# Altium footprint library axsem_rpi_v1-0.PCBLIB: 6 footprints
Each footprint in its own frame and in the unit in brackets; x right, y up, seen from the top. Pads: shape width x height; smd on the part's side, far side on the other; paste and mask are expansions set on the pad; w line width, h text height; cw(c..) or ccw(c..) is an arc to the next point about the centre after c.
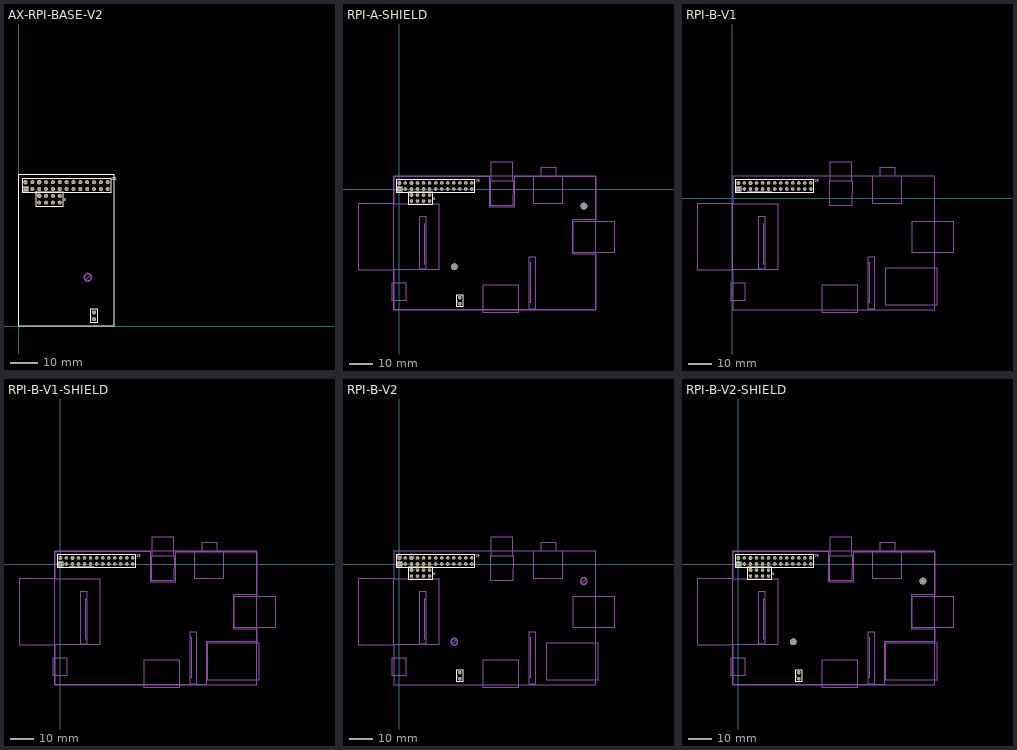
[diagram p0: the footprints below, top view; thin cyan lines are the x and y axes]

## AX-RPI-BASE-V2 [mm]
pads (36):
  rect 1.5x1.5 hole 1: P1_1(2.54,50.8)
  round 1.676 hole 1: P1_2(2.54,53.34) P1_6(7.62,53.34) P5_1(7.62,48.26)
  round 1.5 hole 1: P1_3(5.08,50.8) P1_4(5.08,53.34) P1_5(7.62,50.8) P1_7(10.16,50.8) P1_8(10.16,53.34) P1_9(12.7,50.8) P1_10(12.7,53.34) P1_11(15.24,50.8) P1_12(15.24,53.34) P1_13(17.78,50.8) P1_14(17.78,53.34) P1_15(20.32,50.8) P1_16(20.32,53.34) P1_17(22.86,50.8) P1_18(22.86,53.34) P1_19(25.4,50.8) P1_20(25.4,53.34) P1_21(27.94,50.8) P1_22(27.94,53.34) P1_23(30.48,50.8) P1_24(30.48,53.34) P1_25(33.02,50.8) P1_26(33.02,53.34) P5_2(7.62,45.72) P5_3(10.16,48.26) P5_4(10.16,45.72) P5_5(12.7,48.26) P5_6(12.7,45.72) P5_7(15.24,48.26) P5_8(15.24,45.72) P6_1(27.94,2.54) P6_2(27.94,5.08)
Top Overlay:
  lines w0.127: 0.14,0.075 35.5,0.075 35.5,56 0.14,56 0.14,0.075 ; 1.27,49.53 34.29,49.53 34.29,54.61 1.27,54.61 1.27,49.53 ; 1.615,49.875 3.465,49.875 cw(c57.382,50.8) 3.465,51.725 1.615,51.725 1.615,49.875 ; 6.35,44.45 6.35,49.53 16.51,49.53 16.51,44.45 6.35,44.45 ; 26.67,1.27 29.21,1.27 29.21,6.35 26.67,6.35 26.67,1.27
  text "1" at 2.548,49.236 h1.97
  text "26" at 34.58,53.396 h1.97
  text "1" at 26.416,2.54 h1.97
  text "1" at 6.096,48.26 h1.97
  text "8" at 16.764,45.72 h1.97
Mechanical 12:
  circle w0.1: c25.64,18.08 r1.45
  circle w0.05: c25.63,18.08 r1.25
  lines w0.05: 24.62,17.06 26.67,19.11
  text "Board" at 4.064,41.148 h1.97
  text "56x35.5mm" at 4.064,39.116 h1.97
  text "H=16mm" at 4.064,37.084 h1.97
  text "d=2,9mm" at 28.424,18.117 h1.57
Mechanical 16:
  text "GND" at 29.728,5.072 h0.63
  text "Reset" at 29.728,2.532 h0.63

## RPI-A-SHIELD [mm]
pads (38):
  round 2.9 hole 2.9: 1(23.1,-32.72) 1(77.57,-7.21)
  rect 1.5x1.5 hole 1: P1_1(0,0)
  round 1.676 hole 1: P1_2(0,2.54) P1_6(5.08,2.54) P5_1(5.08,-2.54)
  round 1.5 hole 1: P1_3(2.54,0) P1_4(2.54,2.54) P1_5(5.08,0) P1_7(7.62,0) P1_8(7.62,2.54) P1_9(10.16,0) P1_10(10.16,2.54) P1_11(12.7,0) P1_12(12.7,2.54) P1_13(15.24,0) P1_14(15.24,2.54) P1_15(17.78,0) P1_16(17.78,2.54) P1_17(20.32,0) P1_18(20.32,2.54) P1_19(22.86,0) P1_20(22.86,2.54) P1_21(25.4,0) P1_22(25.4,2.54) P1_23(27.94,0) P1_24(27.94,2.54) P1_25(30.48,0) P1_26(30.48,2.54) P5_2(5.08,-5.08) P5_3(7.62,-2.54) P5_4(7.62,-5.08) P5_5(10.16,-2.54) P5_6(10.16,-5.08) P5_7(12.7,-2.54) P5_8(12.7,-5.08) P6_1(25.4,-48.26) P6_2(25.4,-45.72)
Top Overlay:
  lines w0.127: -1.27,-1.27 31.75,-1.27 31.75,3.81 -1.27,3.81 -1.27,-1.27 ; -0.925,-0.925 0.925,-0.925 cw(c54.842,0) 0.925,0.925 -0.925,0.925 -0.925,-0.925 ; 3.81,-6.35 3.81,-1.27 13.97,-1.27 13.97,-6.35 3.81,-6.35 ; 24.13,-49.53 26.67,-49.53 26.67,-44.45 24.13,-44.45 24.13,-49.53
  text "1" at 0.008,-1.564 h1.97
  text "26" at 32.04,2.596 h1.97
  text "1" at 23.876,-48.26 h1.97
  text "1" at 3.556,-2.54 h1.97
  text "8" at 14.224,-5.08 h1.97
Mechanical 1:
  lines w0: -2.413,-50.724 82.601,-50.724 82.601,-27.33 72.644,-27.33 72.644,-13.005 82.601,-13.005 82.601,5.283 48.514,5.283 48.514,-7.366 37.719,-7.366 37.719,5.283 -2.413,5.283 -2.413,-50.724
Mechanical 16:
  lines w0.05: -2.4,-6.225 -17.4,-6.225 -17.4,-34.025 -2.3,-34.025
  lines w0.076: 10.5,-31.4 10.5,-14.6 ; 10.503,-31.407 11.112,-31.407 ; 10.503,-14.58 11.112,-14.58 ; 54.597,-47.574 55.207,-47.574 ; 54.597,-30.734 55.207,-30.734
  lines w0.1: 55.2,-47.56 55.2,-30.76
  lines w0.127: 38.619,3.16 38.619,11.46 47.51,11.453 47.51,3.172 ; 56.6,5.236 56.6,-6.1 68.6,-6.1 68.6,5.236 ; 59.4,5.3 59.4,8.9 66,8.9 66,5.3 ; -2.4,-34.025 -2.4,-50.725 82.6,-50.725 82.6,5.275 -2.4,5.275 -2.4,-6.225 ; -2.4,-34.025 -2.3,-34.025 16.6,-34.025 16.6,-6.225 -2.4,-6.225 ; -2.4,-34.025 -2.4,-6.225 ; -2.9,-47.1 2.7,-47.1 2.7,-39.5 -2.9,-39.5 -2.9,-47.1 ; 8.6,-33.7 11.1,-33.7 11.1,-11.475 8.6,-11.5 8.6,-33.7 ; 35.1,-51.9 50.2,-51.9 50.2,-40.5 35.1,-40.5 35.1,-51.9 ; 38.17,-6.85 47.994,-6.853 48.021,3.167 38.206,3.163 38.17,-6.85 ; 54.6,-50.66 57.1,-50.66 57.1,-28.46 54.6,-28.46 54.6,-50.66 ; 73.1,-26.775 90.3,-26.775 90.3,-13.525 73.1,-13.525 73.1,-26.775
  text "SD Card" at 0.744,-19.824 h1.97
  text "USB" at 78.546,-20.018 h1.97
  text "USB" at 0.088,-43.631 h1.97
  text "H=-5mm" at 3.483,-19.906 h1.57
  text "Board" at 42.164,-19.812 h1.97
  text "Audio" at 62.636,1.967 h1.97
  text "RCA" at 42.851,0.388 h1.97
  text "HDMI" at 42.515,-49.211 h1.97
  text "(Power)" at 1.812,-43.754 h1.57
  text "(Host)" at 80.466,-20.014 h1.57
  text "56x85mm" at 42.164,-21.844 h1.97
  text "H=16mm" at 42.164,-23.876 h1.97
  text "GND" at 27.188,-45.728 h0.63
  text "Reset" at 27.188,-48.268 h0.63
  text "CSI-2" at 53.584,-39.204 h1.97
  text "DSI" at 13.124,-22.624 h1.97

## RPI-B-V1 [mm]
pads (26):
  rect 1.5x1.5 hole 1: P1_1(2.54,3.81)
  round 1.676 hole 1: P1_2(2.54,6.35) P1_6(7.62,6.35)
  round 1.5 hole 1: P1_3(5.08,3.81) P1_4(5.08,6.35) P1_5(7.62,3.81) P1_7(10.16,3.81) P1_8(10.16,6.35) P1_9(12.7,3.81) P1_10(12.7,6.35) P1_11(15.24,3.81) P1_12(15.24,6.35) P1_13(17.78,3.81) P1_14(17.78,6.35) P1_15(20.32,3.81) P1_16(20.32,6.35) P1_17(22.86,3.81) P1_18(22.86,6.35) P1_19(25.4,3.81) P1_20(25.4,6.35) P1_21(27.94,3.81) P1_22(27.94,6.35) P1_23(30.48,3.81) P1_24(30.48,6.35) P1_25(33.02,3.81) P1_26(33.02,6.35)
Top Overlay:
  lines w0.127: 6.35,2.54 16.51,2.54 ; 1.27,2.54 34.29,2.54 34.29,7.62 1.27,7.62 1.27,2.54 ; 1.615,2.885 3.465,2.885 cw(c57.382,3.81) 3.465,4.735 1.615,4.735 1.615,2.885
  text "1" at 2.548,2.246 h1.97
  text "26" at 34.58,6.406 h1.97
Mechanical 16:
  lines w0.05: 0.14,-2.415 -14.86,-2.415 -14.86,-30.215 0.24,-30.215
  lines w0.076: 13.04,-27.59 13.04,-10.79 ; 13.043,-27.597 13.652,-27.597 ; 13.043,-10.77 13.652,-10.77 ; 57.137,-43.764 57.747,-43.764 ; 57.137,-26.924 57.747,-26.924
  lines w0.1: 57.74,-43.75 57.74,-26.95
  lines w0.127: 41.159,6.97 41.159,15.27 50.05,15.263 50.05,6.982 ; 59.14,9.046 59.14,-2.29 71.14,-2.29 71.14,9.046 ; 61.94,9.11 61.94,12.71 68.54,12.71 68.54,9.11 ; 0.14,-30.215 0.14,-46.915 85.14,-46.915 85.14,9.085 0.14,9.085 0.14,-2.415 ; 0.14,-30.215 0.24,-30.215 19.14,-30.215 19.14,-2.415 0.14,-2.415 ; 0.14,-30.215 0.14,-2.415 ; -0.36,-43.29 5.24,-43.29 5.24,-35.69 -0.36,-35.69 -0.36,-43.29 ; 11.14,-29.89 13.64,-29.89 13.64,-7.665 11.14,-7.69 11.14,-29.89 ; 37.64,-48.09 52.74,-48.09 52.74,-36.69 37.64,-36.69 37.64,-48.09 ; 40.71,-3.04 50.534,-3.043 50.561,6.977 40.746,6.973 40.71,-3.04 ; 57.14,-46.85 59.64,-46.85 59.64,-24.65 57.14,-24.65 57.14,-46.85 ; 64.34,-44.915 86.14,-44.915 86.14,-29.515 64.34,-29.515 64.34,-44.915 ; 75.64,-22.965 92.84,-22.965 92.84,-9.715 75.64,-9.715 75.64,-22.965
  text "SD Card" at 3.284,-16.014 h1.97
  text "USB" at 81.086,-16.208 h1.97
  text "RJ45" at 83.526,-37.197 h1.97
  text "USB" at 2.628,-39.821 h1.97
  text "H=-5mm" at 6.023,-16.096 h1.57
  text "Board" at 44.704,-16.002 h1.97
  text "Audio" at 65.176,5.777 h1.97
  text "RCA" at 45.391,4.198 h1.97
  text "HDMI" at 45.055,-45.401 h1.97
  text "(Power)" at 4.352,-39.944 h1.57
  text "(Host)" at 83.006,-16.204 h1.57
  text "56x85mm" at 44.704,-18.034 h1.97
  text "H=16mm" at 44.704,-20.066 h1.97
  text "CSI-2" at 56.124,-35.394 h1.97
  text "DSI" at 15.664,-18.814 h1.97

## RPI-B-V1-SHIELD [mm]
pads (26):
  rect 1.5x1.5 hole 1: P1_1(0,0)
  round 1.676 hole 1: P1_2(0,2.54) P1_6(5.08,2.54)
  round 1.5 hole 1: P1_3(2.54,0) P1_4(2.54,2.54) P1_5(5.08,0) P1_7(7.62,0) P1_8(7.62,2.54) P1_9(10.16,0) P1_10(10.16,2.54) P1_11(12.7,0) P1_12(12.7,2.54) P1_13(15.24,0) P1_14(15.24,2.54) P1_15(17.78,0) P1_16(17.78,2.54) P1_17(20.32,0) P1_18(20.32,2.54) P1_19(22.86,0) P1_20(22.86,2.54) P1_21(25.4,0) P1_22(25.4,2.54) P1_23(27.94,0) P1_24(27.94,2.54) P1_25(30.48,0) P1_26(30.48,2.54)
Top Overlay:
  lines w0.127: 3.81,-1.27 13.97,-1.27 ; -1.27,-1.27 31.75,-1.27 31.75,3.81 -1.27,3.81 -1.27,-1.27 ; -0.925,-0.925 0.925,-0.925 cw(c54.842,0) 0.925,0.925 -0.925,0.925 -0.925,-0.925
  text "1" at 0.008,-1.564 h1.97
  text "26" at 32.04,2.596 h1.97
Mechanical 1:
  lines w0: -2.438,-50.749 61.366,-50.749 61.366,-32.741 82.55,-32.741 82.55,-27.33 72.644,-27.33 72.644,-13.005 82.652,-13.005 82.652,5.232 48.514,5.207 48.514,-7.366 37.719,-7.366 37.719,5.334 -2.413,5.334 -2.438,-50.749
Mechanical 16:
  lines w0.05: -2.4,-6.225 -17.4,-6.225 -17.4,-34.025 -2.3,-34.025
  lines w0.076: 10.5,-31.4 10.5,-14.6 ; 10.503,-31.407 11.112,-31.407 ; 10.503,-14.58 11.112,-14.58 ; 54.597,-47.574 55.207,-47.574 ; 54.597,-30.734 55.207,-30.734
  lines w0.1: 55.2,-47.56 55.2,-30.76
  lines w0.127: 38.619,3.16 38.619,11.46 47.51,11.453 47.51,3.172 ; 56.6,5.236 56.6,-6.1 68.6,-6.1 68.6,5.236 ; 59.4,5.3 59.4,8.9 66,8.9 66,5.3 ; -2.4,-34.025 -2.4,-50.725 82.6,-50.725 82.6,5.275 -2.4,5.275 -2.4,-6.225 ; -2.4,-34.025 -2.3,-34.025 16.6,-34.025 16.6,-6.225 -2.4,-6.225 ; -2.4,-34.025 -2.4,-6.225 ; -2.9,-47.1 2.7,-47.1 2.7,-39.5 -2.9,-39.5 -2.9,-47.1 ; 8.6,-33.7 11.1,-33.7 11.1,-11.475 8.6,-11.5 8.6,-33.7 ; 35.1,-51.9 50.2,-51.9 50.2,-40.5 35.1,-40.5 35.1,-51.9 ; 38.17,-6.85 47.994,-6.853 48.021,3.167 38.206,3.163 38.17,-6.85 ; 54.6,-50.66 57.1,-50.66 57.1,-28.46 54.6,-28.46 54.6,-50.66 ; 61.8,-48.725 83.6,-48.725 83.6,-33.325 61.8,-33.325 61.8,-48.725 ; 73.1,-26.775 90.3,-26.775 90.3,-13.525 73.1,-13.525 73.1,-26.775
  text "SD Card" at 0.744,-19.824 h1.97
  text "USB" at 78.546,-20.018 h1.97
  text "RJ45" at 80.986,-41.007 h1.97
  text "USB" at 0.088,-43.631 h1.97
  text "H=-5mm" at 3.483,-19.906 h1.57
  text "Board" at 42.164,-19.812 h1.97
  text "Audio" at 62.636,1.967 h1.97
  text "RCA" at 42.851,0.388 h1.97
  text "HDMI" at 42.515,-49.211 h1.97
  text "(Power)" at 1.812,-43.754 h1.57
  text "(Host)" at 80.466,-20.014 h1.57
  text "56x85mm" at 42.164,-21.844 h1.97
  text "H=16mm" at 42.164,-23.876 h1.97
  text "CSI-2" at 53.584,-39.204 h1.97
  text "DSI" at 13.124,-22.624 h1.97

## RPI-B-V2 [mm]
pads (36):
  rect 1.5x1.5 hole 1: P1_1(0,0)
  round 1.676 hole 1: P1_2(0,2.54) P1_6(5.08,2.54) P5_1(5.08,-2.54)
  round 1.5 hole 1: P1_3(2.54,0) P1_4(2.54,2.54) P1_5(5.08,0) P1_7(7.62,0) P1_8(7.62,2.54) P1_9(10.16,0) P1_10(10.16,2.54) P1_11(12.7,0) P1_12(12.7,2.54) P1_13(15.24,0) P1_14(15.24,2.54) P1_15(17.78,0) P1_16(17.78,2.54) P1_17(20.32,0) P1_18(20.32,2.54) P1_19(22.86,0) P1_20(22.86,2.54) P1_21(25.4,0) P1_22(25.4,2.54) P1_23(27.94,0) P1_24(27.94,2.54) P1_25(30.48,0) P1_26(30.48,2.54) P5_2(5.08,-5.08) P5_3(7.62,-2.54) P5_4(7.62,-5.08) P5_5(10.16,-2.54) P5_6(10.16,-5.08) P5_7(12.7,-2.54) P5_8(12.7,-5.08) P6_1(25.4,-48.26) P6_2(25.4,-45.72)
Top Overlay:
  lines w0.127: -1.27,-1.27 31.75,-1.27 31.75,3.81 -1.27,3.81 -1.27,-1.27 ; -0.925,-0.925 0.925,-0.925 cw(c54.842,0) 0.925,0.925 -0.925,0.925 -0.925,-0.925 ; 3.81,-6.35 3.81,-1.27 13.97,-1.27 13.97,-6.35 3.81,-6.35 ; 24.13,-49.53 26.67,-49.53 26.67,-44.45 24.13,-44.45 24.13,-49.53
  text "1" at 0.008,-1.564 h1.97
  text "26" at 32.04,2.596 h1.97
  text "1" at 23.876,-48.26 h1.97
  text "1" at 3.556,-2.54 h1.97
  text "8" at 14.224,-5.08 h1.97
Mechanical 16:
  circle w0.1: c23.1,-32.72 r1.45
  circle w0.05: c23.09,-32.72 r1.25
  circle w0.1: c77.58,-7.2 r1.45
  circle w0.05: c77.57,-7.2 r1.25
  lines w0.05: -2.4,-6.225 -17.4,-6.225 -17.4,-34.025 -2.3,-34.025 ; 22.08,-33.74 24.13,-31.69 ; 76.56,-8.22 78.61,-6.17
  lines w0.076: 10.5,-31.4 10.5,-14.6 ; 10.503,-31.407 11.112,-31.407 ; 10.503,-14.58 11.112,-14.58 ; 54.597,-47.574 55.207,-47.574 ; 54.597,-30.734 55.207,-30.734
  lines w0.1: 55.2,-47.56 55.2,-30.76
  lines w0.127: 38.619,3.16 38.619,11.46 47.51,11.453 47.51,3.172 ; 56.6,5.236 56.6,-6.1 68.6,-6.1 68.6,5.236 ; 59.4,5.3 59.4,8.9 66,8.9 66,5.3 ; -2.4,-34.025 -2.4,-50.725 82.6,-50.725 82.6,5.275 -2.4,5.275 -2.4,-6.225 ; -2.4,-34.025 -2.3,-34.025 16.6,-34.025 16.6,-6.225 -2.4,-6.225 ; -2.4,-34.025 -2.4,-6.225 ; -2.9,-47.1 2.7,-47.1 2.7,-39.5 -2.9,-39.5 -2.9,-47.1 ; 8.6,-33.7 11.1,-33.7 11.1,-11.475 8.6,-11.5 8.6,-33.7 ; 35.1,-51.9 50.2,-51.9 50.2,-40.5 35.1,-40.5 35.1,-51.9 ; 38.17,-6.85 47.994,-6.853 48.021,3.167 38.206,3.163 38.17,-6.85 ; 54.6,-50.66 57.1,-50.66 57.1,-28.46 54.6,-28.46 54.6,-50.66 ; 61.8,-48.725 83.6,-48.725 83.6,-33.325 61.8,-33.325 61.8,-48.725 ; 73.1,-26.775 90.3,-26.775 90.3,-13.525 73.1,-13.525 73.1,-26.775
  text "SD Card" at 0.744,-19.824 h1.97
  text "USB" at 78.546,-20.018 h1.97
  text "RJ45" at 80.986,-41.007 h1.97
  text "USB" at 0.088,-43.631 h1.97
  text "H=-5mm" at 3.483,-19.906 h1.57
  text "Board" at 42.164,-19.812 h1.97
  text "Audio" at 62.636,1.967 h1.97
  text "RCA" at 42.851,0.388 h1.97
  text "HDMI" at 42.515,-49.211 h1.97
  text "(Power)" at 1.812,-43.754 h1.57
  text "(Host)" at 80.466,-20.014 h1.57
  text "56x85mm" at 42.164,-21.844 h1.97
  text "H=16mm" at 42.164,-23.876 h1.97
  text "GND" at 27.188,-45.728 h0.63
  text "Reset" at 27.188,-48.268 h0.63
  text "CSI-2" at 53.584,-39.204 h1.97
  text "DSI" at 13.124,-22.624 h1.97
  text "d=2,9mm" at 25.884,-32.683 h1.57
Mechanical 30:
  circle w0.152: c0.078,3.1 r1.015
  circle w0.152: c5.158,3.1 r1.015

## RPI-B-V2-SHIELD [mm]
pads (38):
  round 2.9 hole 2.9: 1(23.1,-32.72) 1(77.57,-7.21)
  rect 1.5x1.5 hole 1: P1_1(0,0)
  round 1.676 hole 1: P1_2(0,2.54) P1_6(5.08,2.54) P5_1(5.08,-2.54)
  round 1.5 hole 1: P1_3(2.54,0) P1_4(2.54,2.54) P1_5(5.08,0) P1_7(7.62,0) P1_8(7.62,2.54) P1_9(10.16,0) P1_10(10.16,2.54) P1_11(12.7,0) P1_12(12.7,2.54) P1_13(15.24,0) P1_14(15.24,2.54) P1_15(17.78,0) P1_16(17.78,2.54) P1_17(20.32,0) P1_18(20.32,2.54) P1_19(22.86,0) P1_20(22.86,2.54) P1_21(25.4,0) P1_22(25.4,2.54) P1_23(27.94,0) P1_24(27.94,2.54) P1_25(30.48,0) P1_26(30.48,2.54) P5_2(5.08,-5.08) P5_3(7.62,-2.54) P5_4(7.62,-5.08) P5_5(10.16,-2.54) P5_6(10.16,-5.08) P5_7(12.7,-2.54) P5_8(12.7,-5.08) P6_1(25.4,-48.26) P6_2(25.4,-45.72)
Top Overlay:
  lines w0.127: -1.27,-1.27 31.75,-1.27 31.75,3.81 -1.27,3.81 -1.27,-1.27 ; -0.925,-0.925 0.925,-0.925 cw(c54.842,0) 0.925,0.925 -0.925,0.925 -0.925,-0.925 ; 3.81,-6.35 3.81,-1.27 13.97,-1.27 13.97,-6.35 3.81,-6.35 ; 24.13,-49.53 26.67,-49.53 26.67,-44.45 24.13,-44.45 24.13,-49.53
  text "1" at 0.008,-1.564 h1.97
  text "26" at 32.04,2.596 h1.97
  text "1" at 23.876,-48.26 h1.97
  text "1" at 3.556,-2.54 h1.97
  text "8" at 14.224,-5.08 h1.97
Mechanical 1:
  lines w0: -2.438,-50.749 61.366,-50.749 61.366,-32.741 82.55,-32.741 82.55,-27.33 72.644,-27.33 72.644,-13.005 82.652,-13.005 82.652,5.232 48.514,5.207 48.514,-7.366 37.719,-7.366 37.719,5.334 -2.413,5.334 -2.438,-50.749
Mechanical 16:
  lines w0.05: -2.4,-6.225 -17.4,-6.225 -17.4,-34.025 -2.3,-34.025
  lines w0.076: 10.5,-31.4 10.5,-14.6 ; 10.503,-31.407 11.112,-31.407 ; 10.503,-14.58 11.112,-14.58 ; 54.597,-47.574 55.207,-47.574 ; 54.597,-30.734 55.207,-30.734
  lines w0.1: 55.2,-47.56 55.2,-30.76
  lines w0.127: 38.619,3.16 38.619,11.46 47.51,11.453 47.51,3.172 ; 56.6,5.236 56.6,-6.1 68.6,-6.1 68.6,5.236 ; 59.4,5.3 59.4,8.9 66,8.9 66,5.3 ; -2.4,-34.025 -2.4,-50.725 82.6,-50.725 82.6,5.275 -2.4,5.275 -2.4,-6.225 ; -2.4,-34.025 -2.3,-34.025 16.6,-34.025 16.6,-6.225 -2.4,-6.225 ; -2.4,-34.025 -2.4,-6.225 ; -2.9,-47.1 2.7,-47.1 2.7,-39.5 -2.9,-39.5 -2.9,-47.1 ; 8.6,-33.7 11.1,-33.7 11.1,-11.475 8.6,-11.5 8.6,-33.7 ; 35.1,-51.9 50.2,-51.9 50.2,-40.5 35.1,-40.5 35.1,-51.9 ; 38.17,-6.85 47.994,-6.853 48.021,3.167 38.206,3.163 38.17,-6.85 ; 54.6,-50.66 57.1,-50.66 57.1,-28.46 54.6,-28.46 54.6,-50.66 ; 61.8,-48.725 83.6,-48.725 83.6,-33.325 61.8,-33.325 61.8,-48.725 ; 73.1,-26.775 90.3,-26.775 90.3,-13.525 73.1,-13.525 73.1,-26.775
  text "SD Card" at 0.744,-19.824 h1.97
  text "USB" at 78.546,-20.018 h1.97
  text "RJ45" at 80.986,-41.007 h1.97
  text "USB" at 0.088,-43.631 h1.97
  text "H=-5mm" at 3.483,-19.906 h1.57
  text "Board" at 42.164,-19.812 h1.97
  text "Audio" at 62.636,1.967 h1.97
  text "RCA" at 42.851,0.388 h1.97
  text "HDMI" at 42.515,-49.211 h1.97
  text "(Power)" at 1.812,-43.754 h1.57
  text "(Host)" at 80.466,-20.014 h1.57
  text "56x85mm" at 42.164,-21.844 h1.97
  text "H=16mm" at 42.164,-23.876 h1.97
  text "GND" at 27.188,-45.728 h0.63
  text "Reset" at 27.188,-48.268 h0.63
  text "CSI-2" at 53.584,-39.204 h1.97
  text "DSI" at 13.124,-22.624 h1.97